# EAGLE library part M20-9991046 (library CONNECTORs)
Board-To-Board Connector, 2.54 mm, 10 Contacts, Header, M20 Series, Through Hole, 1 Rows
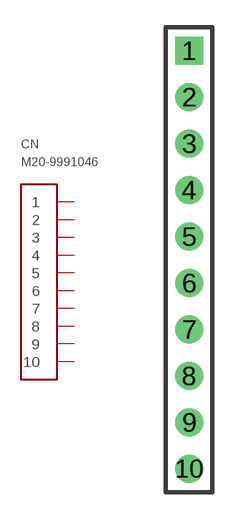
[diagram p37: symbol with the pads of 10PIN_HEADER; footprint 10PIN_HEADER]

Designator prefix CN

## M20-9991046 (FARNELL: 1022261; PRICE_PER: 0.203; VALUE: 1X10PIN MALE)  [10PIN_HEADER]
1  1
2  2
3  3
4  4
5  5
6  6
7  7
8  8
9  9
10  10

## Footprint 10PIN_HEADER (pad centres in mm)
drill 1 pad 1.5 square: 1 0,11.43
drill 1 pad 1.5: 2 0,8.89; 3 0,6.35; 4 0,3.81; 5 0,1.27; 6 0,-1.27; 7 0,-3.81; 8 0,-6.35; 9 0,-8.89; 10 0,-11.43